# Altium footprint library B0303S-1WR3.PcbLib: 1 footprints
Each footprint in its own frame and in the unit in brackets; x right, y up, seen from the top. Pads: shape width x height; smd on the part's side, far side on the other; paste and mask are expansions set on the pad; w line width, h text height; cw(c..) or ccw(c..) is an arc to the next point about the centre after c.
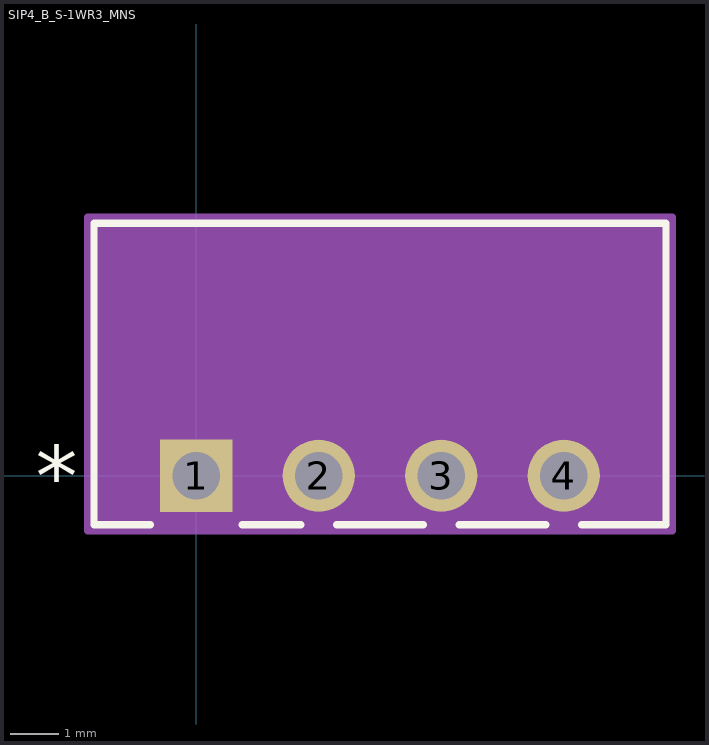
[diagram p0: the footprint, top view; thin cyan lines are the x and y axes]

## SIP4_B_S-1WR3_MNS [mil]
pads (4):
  rect 59x59 / inner round 60 / far side rect 59x59 hole 39 paste-29.5 mask+0: 1(0,0)
  round 59 / inner round 60 / far side round 59 hole 39 paste-29.5 mask+0: 2(100,0) 3(200,0) 4(300,0)
Top Overlay:
  lines w6: -37.33,-40 -83.5,-40 -83.5,206 383.5,206 383.5,-40 314.65,-40 ; 37.33,-40 85.35,-40 ; 114.65,-40 185.35,-40 ; 214.65,-40 285.35,-40
  text "*" at -131,-25 h50
Mechanical 13:
  lines w1: -78.5,-35 378.5,-35 378.5,201 -78.5,201 -78.5,-35
  text "*" at -81,-25 h50
Mechanical 15:
  region: 388.5,-45 -88.5,-45 -88.5,211 388.5,211
  lines w6: -88.5,-45 -88.5,211 388.5,211 388.5,-45 -88.5,-45
3D body: height 400, standoff -215.98, extent -78,-35 379.01,200.98